# EAGLE library part AMW004 (library custom-devices)
802.11b/g/n low power WICED Wi-Fi networking module
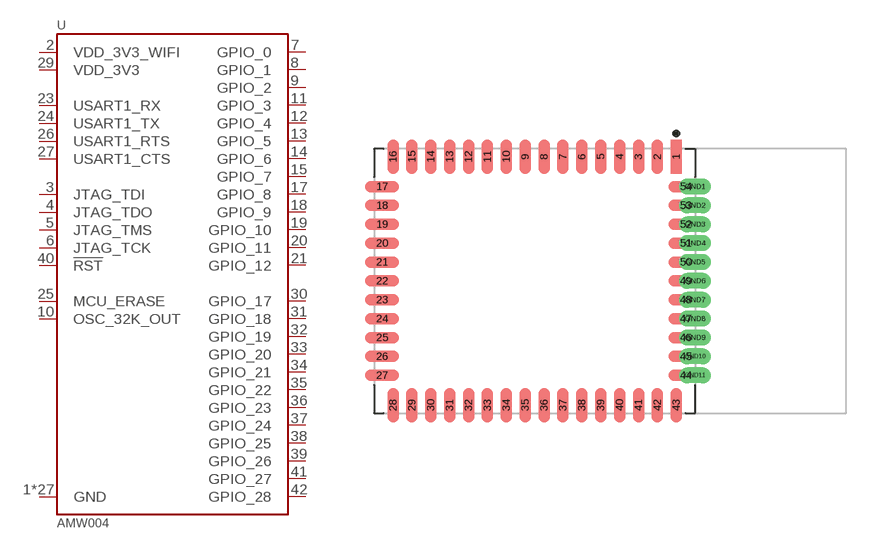
[diagram p2: symbol with the pads of AMW004; footprint AMW004]

Designator prefix U

## AMW004 (MOUSER: 902-AMW004/S)  [AMW004]
1  GND
2  VDD_3V3_WIFI
3  JTAG_TDI
4  JTAG_TDO
5  JTAG_TMS
6  JTAG_TCK
7  GPIO_0
8  GPIO_1
9  GPIO_2
10  OSC_32K_OUT
11  GPIO_3
12  GPIO_4
13  GPIO_5
14  GPIO_6
15  GPIO_7
16  GND
17  GPIO_8
18  GPIO_9
19  GPIO_10
20  GPIO_11
21  GPIO_12
22  GND
23  USART1_RX
24  USART1_TX
25  MCU_ERASE
26  USART1_RTS
27  USART1_CTS
28  GND
29  VDD_3V3
30  GPIO_17
31  GPIO_18
32  GPIO_19
33  GPIO_20
34  GPIO_21
35  GPIO_22
36  GPIO_23
37  GPIO_24
38  GPIO_25
39  GPIO_26
40  !RST
41  GPIO_27
42  GPIO_28
43  GND
44  GND
45  GND
46  GND
47  GND
48  GND
49  GND
50  GND
51  GND
52  GND
53  GND
54  GND
GND1  GND
GND2  GND
GND3  GND
GND4  GND
GND5  GND
GND6  GND
GND7  GND
GND8  GND
GND9  GND
GND10  GND
GND11  GND

## Footprint AMW004 (pad centres in mm)
smd 0.762 x 2.286: 1 20.32,8.355; 2 19.05,8.355; 3 17.78,8.355; 4 16.51,8.355; 5 15.24,8.355; 6 13.97,8.355; 7 12.7,8.355; 8 11.43,8.355; 9 10.16,8.355; 10 8.89,8.355; 11 7.62,8.355; 12 6.35,8.355; 13 5.08,8.355; 14 3.81,8.355; 15 2.54,8.355; 16 1.27,8.355; 28 1.27,-8.355; 29 2.54,-8.355; 30 3.81,-8.355; 31 5.08,-8.355; 32 6.35,-8.355; 33 7.62,-8.355; 34 8.89,-8.355; 35 10.16,-8.355; 36 11.43,-8.355; 37 12.7,-8.355; 38 13.97,-8.355; 39 15.24,-8.355; 40 16.51,-8.355; 41 17.78,-8.355; 42 19.05,-8.355; 43 20.32,-8.355
smd 2.286 x 0.762: 17 0.535,6.35; 18 0.535,5.08; 19 0.535,3.81; 20 0.535,2.54; 21 0.535,1.27; 22 0.535,0; 23 0.535,-1.27; 24 0.535,-2.54; 25 0.535,-3.81; 26 0.535,-5.08; 27 0.535,-6.35; 44 20.955,-6.35; 45 20.955,-5.08; 46 20.955,-3.81; 47 20.955,-2.54; 48 20.955,-1.27; 49 20.955,0; 50 20.955,1.27; 51 20.955,2.54; 52 20.955,3.81; 53 20.955,5.08; 54 20.955,6.35
drill 0.572 pad 0.762 long: GND1 21.59,6.35; GND2 21.59,5.08; GND3 21.59,3.81; GND4 21.59,2.54; GND5 21.59,1.27; GND6 21.59,0; GND7 21.59,-1.27; GND8 21.59,-2.54; GND9 21.59,-3.81; GND10 21.59,-5.08; GND11 21.59,-6.35